# Altium schematic symbol library OPA221.SchLib: 1 symbol
Pins are listed as number, name and electrical type; pins without a type are passive.

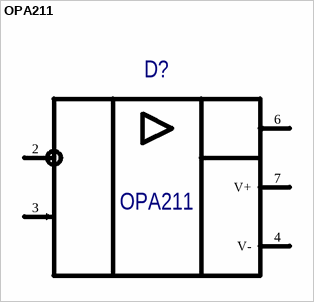
[diagram p0: symbol OPA211]

## OPA211
designator D?, comment OPA2211  (value not drawn)
Type: Микросхема; BCPId: *; Name: *; Package: R-8; ManufacturerPartNumber: OPA2211
footprint SOIC127P600-8M (SOIC, 8-Leads, Body 4.9x3.9mm, Pitch 1.27mm, IPC Low Density)
pins: 2 IN- (in), 3 IN+ (in), 4 V- (power) "0V power pin", 6 OUT (out), 7 V+ (power) "5 V to 30 V power pin"